# EAGLE library part MX25U6435F (library Parts)
1.8V 64M-BIT FLASH MEMORY
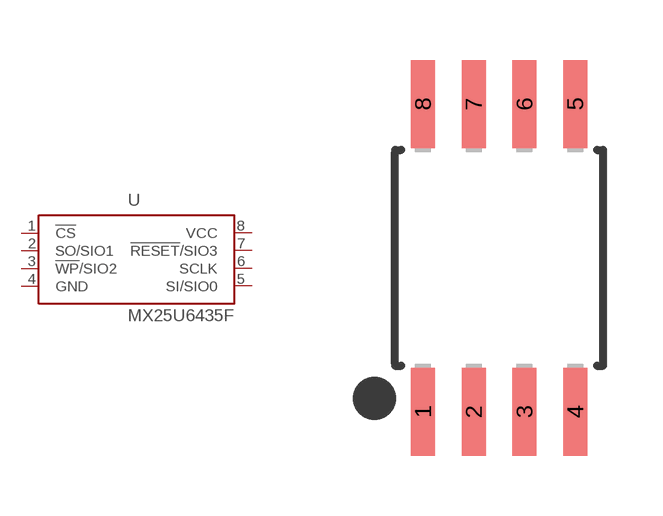
[diagram p19: symbol with the pads of SOP_8L; footprint SOP_8L]

Designator prefix U

## MX25U6435F  [SOP_8L]
1  !CS
2  SO/SIO1
3  !WP!/SIO2
4  GND  pas
5  SI/SIO0
6  SCLK
7  !RESET!/SIO3
8  VCC  pas

## Footprint SOP_8L (pad centres in mm)
Package Outline for SOP 8L 200MIL
smd 0.6 x 2.2: 1 -1.905,-3.85; 2 -0.635,-3.85; 3 0.635,-3.85; 4 1.905,-3.85; 5 1.905,3.85; 6 0.635,3.85; 7 -0.635,3.85; 8 -1.905,3.85